# Altium footprint library LibInductor_Choke.PCBLIB: 15 footprints
Each footprint in its own frame and in the unit in brackets; x right, y up, seen from the top. Pads: shape width x height; smd on the part's side, far side on the other; paste and mask are expansions set on the pad; w line width, h text height; cw(c..) or ccw(c..) is an arc to the next point about the centre after c.
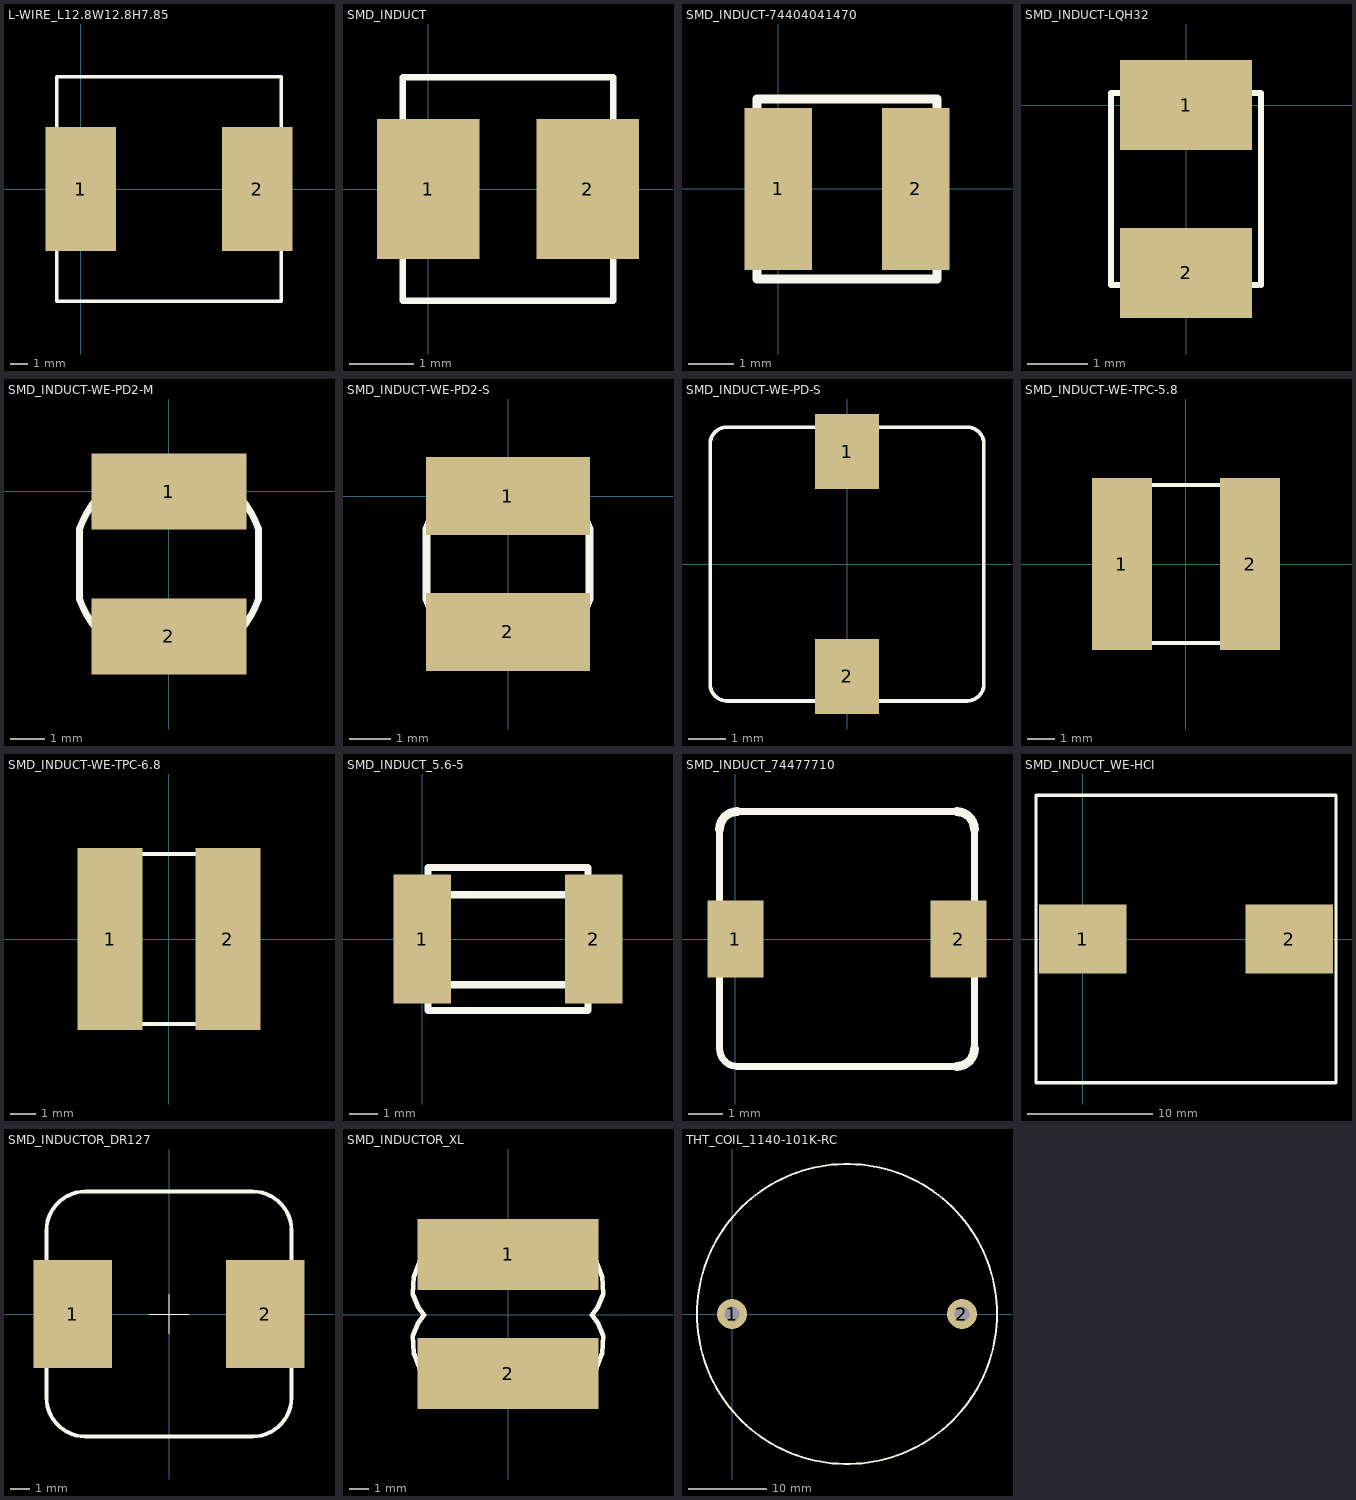
[diagram p0: the footprints below, top view; thin cyan lines are the x and y axes]

## L-WIRE_L12.8W12.8H7.85 [mm] "L-WIRE_L12.8W12.8H7.85"
height 8
pads (2):
  rect 4x7 smd: 1(0,0) 2(10,0)
Top Overlay:
  lines w0.2: -1.35,-6.35 11.35,-6.35 11.35,6.35 -1.35,6.35 -1.35,-6.35

## SMD_INDUCT [mm]
pads (2):
  rect 1.6x2.2 smd: 1(0,0) 2(2.5,0)
Top Overlay:
  lines w0.1: -0.4,-1.75 -0.4,1.75 2.9,1.75 2.9,-1.75 -0.4,-1.75

## SMD_INDUCT-74404041470 [mm]
height 1.2
pads (2):
  rect 1.5x3.6 smd: 1(0,0) 2(3.05,0)
Top Overlay:
  lines w0.2: -0.475,-2 -0.475,2 3.525,2 3.525,-2 -0.475,-2

## SMD_INDUCT-LQH32 [mm]
pads (2):
  rect 2.2x1.5 smd: 1(0,0) 2(0,-2.8)
Top Overlay:
  lines w0.1: 1.2,-3 0.9,-3 -1.25,-3 -1.25,0.2 1.25,0.2 1.25,-3

## SMD_INDUCT-WE-PD2-M [mm]
pads (2):
  rect 4.5x2.2 smd: 1(0.01,-0.005) 2(0.01,-4.205)
Top Overlay:
  lines w0.2: -2.59,-3.105 ccw(c0.01,-2.205) 2.61,-3.105 2.61,-1.105 ccw(c0.01,-2.005) -2.59,-1.105 -2.59,-3.105

## SMD_INDUCT-WE-PD2-S [mm]
pads (2):
  rect 4x1.9 smd: 1(-0.002,0.001) 2(-0.002,-3.3)
Top Overlay:
  lines w0.2: -1.987,-2.486 ccw(c-0.002,-1.8) 1.982,-2.486 1.982,-0.813 ccw(c-0.002,-1.5) -1.987,-0.813 -1.987,-2.486

## SMD_INDUCT-WE-PD-S [mm]
pads (2):
  rect 1.7x2 smd: 1(0,3) 2(0,-3)
Top Overlay:
  circle w0.1: c3.65,3.2 r0
  circle w0.1: c3.2,-3.65 r0
  circle w0.1: c-3.65,-3.2 r0
  circle w0.1: c-3.2,3.65 r0
  lines w0.1: -3.65,-3.2 ccw(c-3.2,-3.2) -3.2,-3.65 0,-3.65 3.2,-3.65 ccw(c3.2,-3.2) 3.65,-3.2 3.65,0 3.65,3.2 ccw(c3.2,3.2) 3.2,3.65 0,3.65 -3.2,3.65 ccw(c-3.2,3.2) -3.65,3.2 -3.65,0 -3.65,-3.2

## SMD_INDUCT-WE-TPC-5.8 [mm]
pads (2):
  rect 2.2x6.3 smd: 1(-2.35,0) 2(2.35,0)
Top Overlay:
  lines w0.15: -2.15,2.9 2.15,2.9 ; -2.1,2.9 ccw(c-2.1,2.1) -2.9,2.1 -2.9,-2.1 ccw(c-2.1,-2.1) -2.1,-2.9 2.1,-2.9 ccw(c2.1,-2.1) 2.9,-2.1 2.9,2.1 ccw(c2.1,2.1) 2.1,2.9

## SMD_INDUCT-WE-TPC-6.8 [mm]
pads (2):
  rect 2.6x7.3 smd: 1(-2.35,0) 2(2.35,0)
Top Overlay:
  lines w0.15: -3.4,-2.6 ccw(c-2.6,-2.6) -2.6,-3.4 2.6,-3.4 ccw(c2.6,-2.6) 3.4,-2.6 3.4,2.6 ccw(c2.6,2.6) 2.6,3.4 -2.6,3.4 ccw(c-2.6,2.6) -3.4,2.6 -3.4,-2.6

## SMD_INDUCT_5.6-5 [mm]
pads (2):
  rect 2x4.5 smd: 1(0,0) 2(6,0)
Top Overlay:
  lines w0.254: 0.2,-1.6 5.8,-1.6 ; 0.2,1.55 5.8,1.55 ; 0.2,-2.5 0.2,2.5 5.8,2.5 5.8,-2.5 0.2,-2.5

## SMD_INDUCT_74477710 [mm]
pads (2):
  rect 1.6x2.2 smd: 1(0,0) 2(6.4,0)
Top Overlay:
  lines w0.2: -0.45,3.15 -0.45,-3.15 ccw(c0.05,-3.15) 0.05,-3.65 6.35,-3.65 ; 0.05,3.65 6.35,3.65 ; 6.85,-3.15 6.85,3.15
  lines w0.254: -0.45,3.15 cw(c0.05,3.15) 0.05,3.65 ; 6.35,-3.65 ccw(c6.35,-3.15) 6.85,-3.15 ; 6.35,3.65 cw(c6.35,3.15) 6.85,3.15

## SMD_INDUCT_WE-HCI [mm]
pads (2):
  rect 7x5.5 smd: 1(0,0) 2(16.5,0)
Top Overlay:
  lines w0.254: -3.75,-11.5 -3.75,11.5 20.25,11.5 20.25,-11.5 -3.75,-11.5

## SMD_INDUCTOR_DR127 [mm]
pads (2):
  rect 4x5.5 smd: 1(-4.9,0) 2(4.9,0)
Top Overlay:
  lines w0.01: -1,0 1,0 ; 0,-1 0,1
  lines w0.2: -6.25,-4.25 ccw(c-4.25,-4.25) -4.25,-6.25 4.25,-6.25 ccw(c4.25,-4.25) 6.25,-4.25 6.25,4.25 ccw(c4.25,4.25) 4.25,6.25 -4.25,6.25 ccw(c-4.25,4.25) -6.25,4.25 -6.25,-4.25

## SMD_INDUCTOR_XL [mm]
pads (2):
  rect 9.5x3.75 smd: 1(0,3.175) 2(0,-3.075)
Top Overlay:
  lines w0.254: -5,-1.1 -4.95,-2 -4.4,-3.4 -3.2,-4.5 0,-4.5 3.2,-4.5 4.4,-3.4 4.95,-2 5,-1.1 4.7,-0.4 4.4,0 4.7,0.4 5,1.1 4.95,2 4.4,3.4 3.2,4.5 0,4.5 -3.2,4.5 -4.4,3.4 -4.95,2 -5,1.1 -4.7,0.4 -4.4,0 -4.7,-0.4 -5,-1.1

## THT_COIL_1140-101K-RC [mm]
pads (2):
  round 3.8 hole 1.9: 1(0,0) 2(29.2,0)
Top Overlay:
  circle w0.254: c14.6,0 r19.05